# Altium integrated library TI_Logic_Little_Logic.IntLib: 1164 symbols (part 24 of 35)
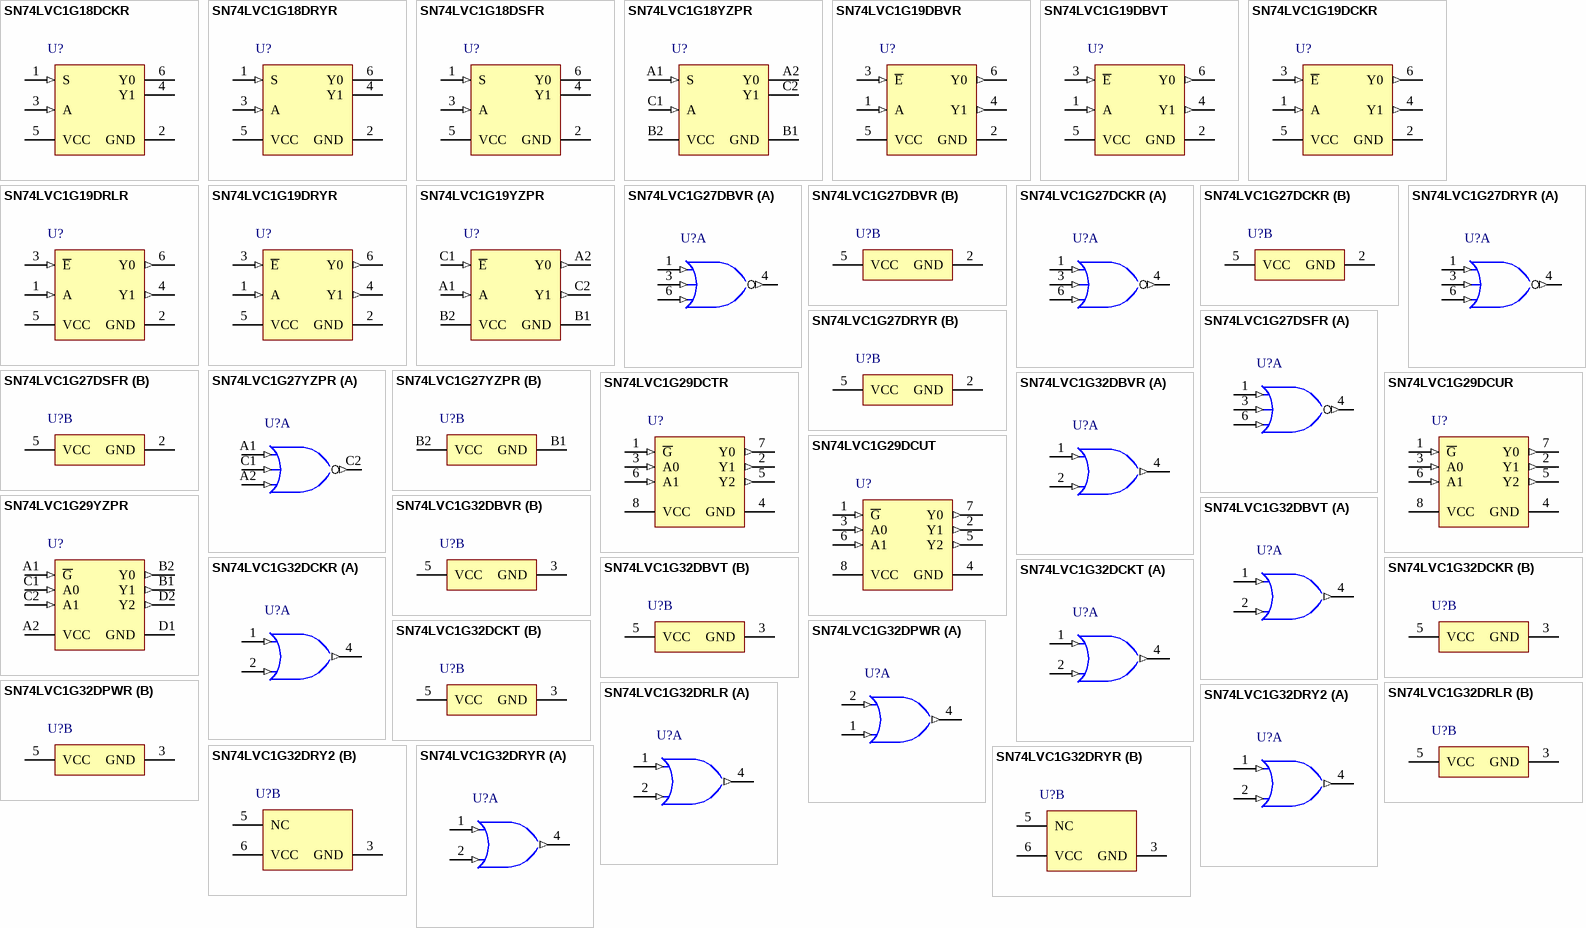
[diagram p83: symbols SN74LVC1G18DCKR to SN74LVC1G32DRYR]

## SN74LVC1G32DCKR
designator U?
Single 2-Input Positive-OR Gate, DCK0005A, LARGE T&R; Generic Part Number: SN74LVC1G32; Manufacturer: Texas Instruments; PartNumber: SN74LVC1G32DCKR; VCC(Min)(V): 1.65; VCC(Max)(V): 5.5; Output Type: CMOS; ICC @ Nom Voltage(Max)(mA): 0.01; Input Type: CMOS/TTL; Bits(#): 1; F @ Nom Voltage(Max)(Mhz): 150; Rating: Catalog; Technology Family: LVC; Voltage(Nom)(V): 1.8,2.5,3.3,5; Schmitt Trigger: No; Output Drive (IOL/IOH)(Max)(mA): 32/-32; tpd @ Nom Voltage(Max)(ns): 7.2,4.4,3.6,3.4; Logic: True; Sub-Family: OR Gate; DatasheetVersion: SCES219U; PackageReference: DCK0005A; Supplier 1: Mouser; Supplier Part Number 1: 595-SN74LVC1G32DCKR; Supplier 2: Digi-Key; Supplier Part Number 2: 296-9848-2-ND; Supplier 3: Digi-Key; Supplier Part Number 3: 296-9848-1-ND; Supplier 4: Digi-Key; Supplier Part Number 4: 296-9848-6-ND; Operating Temperature Range(C): -40 to 125,-40 to 85; 3-State Output: No; ComponentLink1Description: Manufacturer URL; ComponentLink1URL: http://www.ti.com/; ComponentLink2Description: Datasheet; ComponentLink2URL: http://www.ti.com/lit/ds/symlink/sn74lvc1g32.pdf
footprint DCK0005A_N (SOT23, 5-Leads, Body 2.15x1.4mm, Pitch 0.65mm, IPC Medium Density)
footprint DCK0005A_M (SOT23, 5-Leads, Body 2.15x1.4mm, Pitch 0.65mm, IPC Low Density)
footprint DCK0005A_L (SOT23, 5-Leads, Body 2.15x1.4mm, Pitch 0.65mm, IPC High Density)
part A pins: 1 A (in) "Input A", 2 B (in) "Input B", 4 Y (out) "Output Y"
part B pins: 3 GND (power) "Ground Pin", 5 VCC (power) "Power Pin"

## SN74LVC1G32DCKT
designator U?
Single 2-Input Positive-OR Gate, DCK0005A, SMALL T&R; Generic Part Number: SN74LVC1G32; Manufacturer: Texas Instruments; PartNumber: SN74LVC1G32DCKT; VCC(Min)(V): 1.65; VCC(Max)(V): 5.5; Output Type: CMOS; ICC @ Nom Voltage(Max)(mA): 0.01; Input Type: CMOS/TTL; Bits(#): 1; F @ Nom Voltage(Max)(Mhz): 150; Rating: Catalog; Technology Family: LVC; Voltage(Nom)(V): 1.8,2.5,3.3,5; Schmitt Trigger: No; Output Drive (IOL/IOH)(Max)(mA): 32/-32; tpd @ Nom Voltage(Max)(ns): 7.2,4.4,3.6,3.4; Logic: True; Sub-Family: OR Gate; DatasheetVersion: SCES219U; PackageReference: DCK0005A; Supplier 1: Mouser; Supplier Part Number 1: 595-SN74LVC1G32DCKT; Supplier 2: Digi-Key; Supplier Part Number 2: 296-26602-2-ND; Supplier 3: Digi-Key; Supplier Part Number 3: 296-26602-1-ND; Supplier 4: Digi-Key; Supplier Part Number 4: 296-26602-6-ND; Operating Temperature Range(C): -40 to 125,-40 to 85; 3-State Output: No; ComponentLink1Description: Manufacturer URL; ComponentLink1URL: http://www.ti.com/; ComponentLink2Description: Datasheet; ComponentLink2URL: http://www.ti.com/lit/ds/symlink/sn74lvc1g32.pdf
footprint DCK0005A_N (SOT23, 5-Leads, Body 2.15x1.4mm, Pitch 0.65mm, IPC Medium Density)
footprint DCK0005A_M (SOT23, 5-Leads, Body 2.15x1.4mm, Pitch 0.65mm, IPC Low Density)
footprint DCK0005A_L (SOT23, 5-Leads, Body 2.15x1.4mm, Pitch 0.65mm, IPC High Density)
part A pins: 1 A (in) "Input A", 2 B (in) "Input B", 4 Y (out) "Output Y"
part B pins: 3 GND (power) "Ground Pin", 5 VCC (power) "Power Pin"

## SN74LVC1G32DPWR
designator U?
Single 2-Input Positive-OR Gate, DPW0004A, LARGE T&R; Generic Part Number: SN74LVC1G32; Manufacturer: Texas Instruments; PartNumber: SN74LVC1G32DPWR; VCC(Min)(V): 1.65; VCC(Max)(V): 5.5; Output Type: CMOS; ICC @ Nom Voltage(Max)(mA): 0.01; Input Type: CMOS/TTL; Bits(#): 1; F @ Nom Voltage(Max)(Mhz): 150; Rating: Catalog; Technology Family: LVC; Voltage(Nom)(V): 1.8,2.5,3.3,5; Schmitt Trigger: No; Output Drive (IOL/IOH)(Max)(mA): 32/-32; tpd @ Nom Voltage(Max)(ns): 7.2,4.4,3.6,3.4; Logic: True; Sub-Family: OR Gate; DatasheetVersion: SCES219U; PackageReference: DPW0004A; Supplier 1: Mouser; Supplier Part Number 1: 595-SN74LVC1G32DPWR; Supplier 2: Digi-Key; Supplier Part Number 2: 296-40552-2-ND; Supplier 3: Digi-Key; Supplier Part Number 3: 296-40552-1-ND; Supplier 4: Digi-Key; Supplier Part Number 4: 296-40552-6-ND; Operating Temperature Range(C): -40 to 125,-40 to 85; 3-State Output: No; ComponentLink1Description: Manufacturer URL; ComponentLink1URL: http://www.ti.com/; ComponentLink2Description: Datasheet; ComponentLink2URL: http://www.ti.com/lit/ds/symlink/sn74lvc1g32.pdf
footprint DPW0004A_V (SON, 5-Leads, Body 0.8x0.8mm, TI Recommend)
part A pins: 1 B (in) "Input B", 2 A (in) "Input A", 4 Y (out) "Output Y"
part B pins: 3 GND (power) "Ground", 5 VCC (power) "Power Pin"

## SN74LVC1G32DRLR
designator U?
Single 2-Input Positive-OR Gate, DRL0005A, LARGE T&R; Generic Part Number: SN74LVC1G32; Manufacturer: Texas Instruments; PartNumber: SN74LVC1G32DRLR; VCC(Min)(V): 1.65; VCC(Max)(V): 5.5; Output Type: CMOS; ICC @ Nom Voltage(Max)(mA): 0.01; Input Type: CMOS/TTL; Bits(#): 1; F @ Nom Voltage(Max)(Mhz): 150; Rating: Catalog; Technology Family: LVC; Voltage(Nom)(V): 1.8,2.5,3.3,5; Schmitt Trigger: No; Output Drive (IOL/IOH)(Max)(mA): 32/-32; tpd @ Nom Voltage(Max)(ns): 7.2,4.4,3.6,3.4; Logic: True; Sub-Family: OR Gate; DatasheetVersion: SCES219U; PackageReference: DRL0005A; Supplier 1: Mouser; Supplier Part Number 1: 595-SN74LVC1G32DRLR; Supplier 2: Digi-Key; Supplier Part Number 2: 296-18016-2-ND; Supplier 3: Digi-Key; Supplier Part Number 3: 296-18016-1-ND; Supplier 4: Digi-Key; Supplier Part Number 4: 296-18016-6-ND; Operating Temperature Range(C): -40 to 125,-40 to 85; 3-State Output: No; ComponentLink1Description: Manufacturer URL; ComponentLink1URL: http://www.ti.com/; ComponentLink2Description: Datasheet; ComponentLink2URL: http://www.ti.com/lit/ds/symlink/sn74lvc1g32.pdf
footprint DRL0005A_N (SOT23, 5-Leads, Body 1.7x1.3mm, Pitch 0.5mm, IPC Medium Density)
footprint DRL0005A_M (SOT23, 5-Leads, Body 1.7x1.3mm, Pitch 0.5mm, IPC Low Density)
footprint DRL0005A_L (SOT23, 5-Leads, Body 1.7x1.3mm, Pitch 0.5mm, IPC High Density)
part A pins: 1 A (in) "Input A", 2 B (in) "Input B", 4 Y (out) "Output Y"
part B pins: 3 GND (power) "Ground Pin", 5 VCC (power) "Power Pin"

## SN74LVC1G32DRY2
designator U?
Single 2-Input Positive-OR Gate, DRY0006A, LARGE T&R; Generic Part Number: SN74LVC1G32; Manufacturer: Texas Instruments; PartNumber: SN74LVC1G32DRY2; VCC(Min)(V): 1.65; VCC(Max)(V): 5.5; Output Type: CMOS; ICC @ Nom Voltage(Max)(mA): 0.01; Input Type: CMOS/TTL; Bits(#): 1; F @ Nom Voltage(Max)(Mhz): 150; Rating: Catalog; Technology Family: LVC; Voltage(Nom)(V): 1.8,2.5,3.3,5; Schmitt Trigger: No; Output Drive (IOL/IOH)(Max)(mA): 32/-32; tpd @ Nom Voltage(Max)(ns): 7.2,4.4,3.6,3.4; Logic: True; Sub-Family: OR Gate; DatasheetVersion: SCES219U; PackageReference: DRY0006A; Supplier 1: Mouser; Supplier Part Number 1: 595-SN74LVC1G32DRY2; Supplier 2: Digi-Key; Supplier Part Number 2: 296-36412-2-ND; Supplier 3: Digi-Key; Supplier Part Number 3: 296-36412-1-ND; Supplier 4: Digi-Key; Supplier Part Number 4: 296-36412-6-ND; Operating Temperature Range(C): -40 to 125,-40 to 85; 3-State Output: No; ComponentLink1Description: Manufacturer URL; ComponentLink1URL: http://www.ti.com/; ComponentLink2Description: Datasheet; ComponentLink2URL: http://www.ti.com/lit/ds/symlink/sn74lvc1g32.pdf
footprint DRY0006A_V (SON, 6-Leads, Body 1.45x1mm, Pitch 0.5mm)
part A pins: 1 A (in) "Input", 2 B (in) "Input", 4 Y (out) "Output"
part B pins: 3 GND (power) "Ground", 5 NC "Not connected", 6 VCC (power) "Power pin"

## SN74LVC1G32DRYR
designator U?
Single 2-Input Positive-OR Gate, DRY0006A, LARGE T&R; Generic Part Number: SN74LVC1G32; Manufacturer: Texas Instruments; PartNumber: SN74LVC1G32DRYR; VCC(Min)(V): 1.65; VCC(Max)(V): 5.5; Output Type: CMOS; ICC @ Nom Voltage(Max)(mA): 0.01; Input Type: CMOS/TTL; Bits(#): 1; F @ Nom Voltage(Max)(Mhz): 150; Rating: Catalog; Technology Family: LVC; Voltage(Nom)(V): 1.8,2.5,3.3,5; Schmitt Trigger: No; Output Drive (IOL/IOH)(Max)(mA): 32/-32; tpd @ Nom Voltage(Max)(ns): 7.2,4.4,3.6,3.4; Logic: True; Sub-Family: OR Gate; DatasheetVersion: SCES219U; PackageReference: DRY0006A; Supplier 1: Mouser; Supplier Part Number 1: 595-SN74LVC1G32DRYR; Supplier 2: Digi-Key; Supplier Part Number 2: 296-21549-2-ND; Supplier 3: Digi-Key; Supplier Part Number 3: 296-21549-1-ND; Supplier 4: Digi-Key; Supplier Part Number 4: 296-21549-6-ND; Operating Temperature Range(C): -40 to 125,-40 to 85; 3-State Output: No; ComponentLink1Description: Manufacturer URL; ComponentLink1URL: http://www.ti.com/; ComponentLink2Description: Datasheet; ComponentLink2URL: http://www.ti.com/lit/ds/symlink/sn74lvc1g32.pdf
footprint DRY0006A_V (SON, 6-Leads, Body 1.45x1mm, Pitch 0.5mm)
part A pins: 1 A (in) "Input", 2 B (in) "Input", 4 Y (out) "Output"
part B pins: 3 GND (power) "Ground", 5 NC "Not connected", 6 VCC (power) "Power pin"

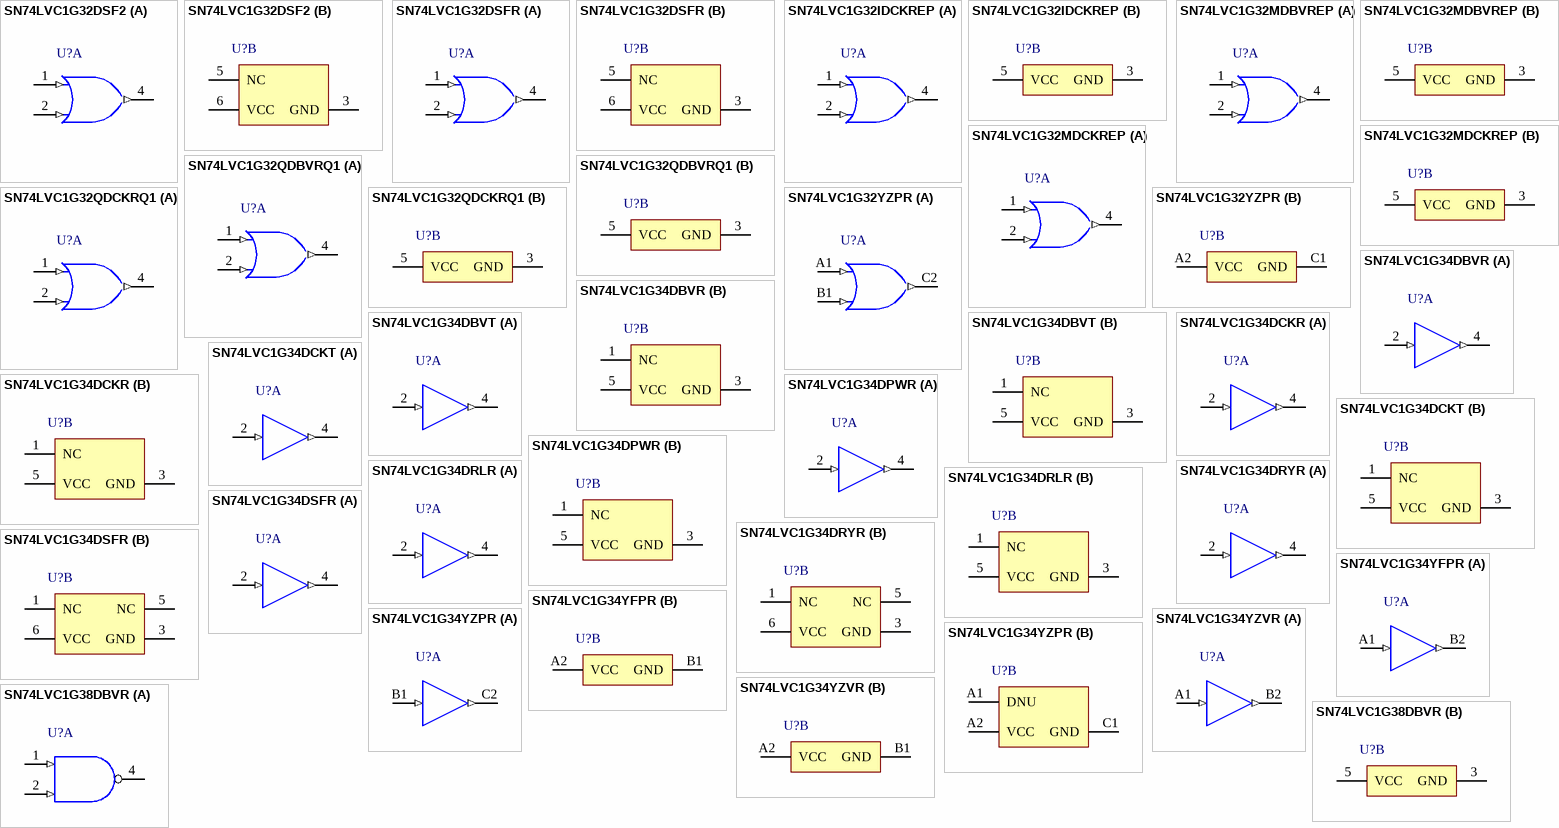
[diagram p40: symbols SN74LVC1G32DSF2 to SN74LVC1G38DBVR]

## SN74LVC1G32DSF2
designator U?
Single 2-Input Positive-OR Gate, DSF0006A, LARGE T&R; Generic Part Number: SN74LVC1G32; Manufacturer: Texas Instruments; PartNumber: SN74LVC1G32DSF2; VCC(Min)(V): 1.65; VCC(Max)(V): 5.5; Output Type: CMOS; ICC @ Nom Voltage(Max)(mA): 0.01; Input Type: CMOS/TTL; Bits(#): 1; F @ Nom Voltage(Max)(Mhz): 150; Rating: Catalog; Technology Family: LVC; Voltage(Nom)(V): 1.8,2.5,3.3,5; Schmitt Trigger: No; Output Drive (IOL/IOH)(Max)(mA): 32/-32; tpd @ Nom Voltage(Max)(ns): 7.2,4.4,3.6,3.4; Logic: True; Sub-Family: OR Gate; DatasheetVersion: SCES219U; PackageReference: DSF0006A; Supplier 1: Mouser; Supplier Part Number 1: 595-SN74LVC1G32DSF2; Supplier 2: Digi-Key; Supplier Part Number 2: 296-30438-2-ND; Supplier 3: Digi-Key; Supplier Part Number 3: 296-30438-1-ND; Supplier 4: Digi-Key; Supplier Part Number 4: 296-30438-6-ND; Operating Temperature Range(C): -40 to 125,-40 to 85; 3-State Output: No; ComponentLink1Description: Manufacturer URL; ComponentLink1URL: http://www.ti.com/; ComponentLink2Description: Datasheet; ComponentLink2URL: http://www.ti.com/lit/ds/symlink/sn74lvc1g32.pdf
footprint DSF0006A_V (SON, 6-Leads, Body 1x1mm, Pitch 0.35mm, TI Recommend)
part A pins: 1 A (in) "Input", 2 B (in) "Input", 4 Y (out) "Output"
part B pins: 3 GND (power) "Ground", 5 NC "Not connected", 6 VCC (power) "Power pin"

## SN74LVC1G32DSFR
designator U?
Single 2-Input Positive-OR Gate, DSF0006A, LARGE T&R; Generic Part Number: SN74LVC1G32; Manufacturer: Texas Instruments; PartNumber: SN74LVC1G32DSFR; VCC(Min)(V): 1.65; VCC(Max)(V): 5.5; Output Type: CMOS; ICC @ Nom Voltage(Max)(mA): 0.01; Input Type: CMOS/TTL; Bits(#): 1; F @ Nom Voltage(Max)(Mhz): 150; Rating: Catalog; Technology Family: LVC; Voltage(Nom)(V): 1.8,2.5,3.3,5; Schmitt Trigger: No; Output Drive (IOL/IOH)(Max)(mA): 32/-32; tpd @ Nom Voltage(Max)(ns): 7.2,4.4,3.6,3.4; Logic: True; Sub-Family: OR Gate; DatasheetVersion: SCES219U; PackageReference: DSF0006A; Supplier 1: Mouser; Supplier Part Number 1: 595-SN74LVC1G32DSFR; Supplier 2: Digi-Key; Supplier Part Number 2: 296-28376-2-ND; Supplier 3: Digi-Key; Supplier Part Number 3: 296-28376-1-ND; Supplier 4: Digi-Key; Supplier Part Number 4: 296-28376-6-ND; Operating Temperature Range(C): -40 to 125,-40 to 85; 3-State Output: No; ComponentLink1Description: Manufacturer URL; ComponentLink1URL: http://www.ti.com/; ComponentLink2Description: Datasheet; ComponentLink2URL: http://www.ti.com/lit/ds/symlink/sn74lvc1g32.pdf
footprint DSF0006A_V (SON, 6-Leads, Body 1x1mm, Pitch 0.35mm, TI Recommend)
part A pins: 1 A (in) "Input", 2 B (in) "Input", 4 Y (out) "Output"
part B pins: 3 GND (power) "Ground", 5 NC "Not connected", 6 VCC (power) "Power pin"

## SN74LVC1G32IDCKREP
designator U?
Enhanced Product Single 2-Input Positive-Or Gate, DCK0005A, LARGE T&R; Generic Part Number: SN74LVC1G32-EP; Manufacturer: Texas Instruments; PartNumber: SN74LVC1G32IDCKREP; VCC(Min)(V): 1.65; VCC(Max)(V): 5.5; Output Type: CMOS; ICC @ Nom Voltage(Max)(mA): 0.01; Input Type: CMOS/TTL; Bits(#): 1; F @ Nom Voltage(Max)(Mhz): 150; Rating: HiRel Enhanced Product; Technology Family: LVC; Voltage(Nom)(V): 1.8,2.5,3.3,5; Schmitt Trigger: No; Output Drive (IOL/IOH)(Max)(mA): 32/-32; tpd @ Nom Voltage(Max)(ns): 8,6.5,5.7,4.5; Logic: True; Sub-Family: OR Gate; DatasheetVersion: SCES458D; PackageReference: DCK0005A; Supplier 1: Mouser; Supplier Part Number 1: 595-SN74LVC32IDCKREP; Supplier 2: Digi-Key; Supplier Part Number 2: 296-22348-2-ND; Supplier 3: Digi-Key; Supplier Part Number 3: 296-22348-1-ND; Supplier 4: Digi-Key; Supplier Part Number 4: 296-22348-6-ND; Operating Temperature Range(C): -40 to 85,-55 to 125; 3-State Output: No; ComponentLink1Description: Manufacturer URL; ComponentLink1URL: http://www.ti.com/; ComponentLink2Description: Datasheet; ComponentLink2URL: http://www.ti.com/lit/ds/symlink/sn74lvc1g32-ep.pdf
footprint DCK0005A_N (SOT23, 5-Leads, Body 2.15x1.4mm, Pitch 0.65mm, IPC Medium Density)
footprint DCK0005A_M (SOT23, 5-Leads, Body 2.15x1.4mm, Pitch 0.65mm, IPC Low Density)
footprint DCK0005A_L (SOT23, 5-Leads, Body 2.15x1.4mm, Pitch 0.65mm, IPC High Density)
part A pins: 1 A (in) "Input A", 2 B (in) "Input B", 4 Y (out) "Output Y"
part B pins: 3 GND (power) "Ground Pin", 5 VCC (power) "Power Pin"

## SN74LVC1G32MDBVREP
designator U?
Enhanced Product Single 2-Input Positive-Or Gate, DBV0005A, LARGE T&R; Generic Part Number: SN74LVC1G32-EP; Manufacturer: Texas Instruments; PartNumber: SN74LVC1G32MDBVREP; VCC(Min)(V): 1.65; VCC(Max)(V): 5.5; Output Type: CMOS; ICC @ Nom Voltage(Max)(mA): 0.01; Input Type: CMOS/TTL; Bits(#): 1; F @ Nom Voltage(Max)(Mhz): 150; Rating: HiRel Enhanced Product; Technology Family: LVC; Voltage(Nom)(V): 1.8,2.5,3.3,5; Schmitt Trigger: No; Output Drive (IOL/IOH)(Max)(mA): 32/-32; tpd @ Nom Voltage(Max)(ns): 8,6.5,5.7,4.5; Logic: True; Sub-Family: OR Gate; DatasheetVersion: SCES458D; PackageReference: DBV0005A; Supplier 1: Mouser; Supplier Part Number 1: 595-SN74LVC32MDBVREP; Supplier 2: Digi-Key; Supplier Part Number 2: 296-22349-2-ND; Supplier 3: Digi-Key; Supplier Part Number 3: 296-22349-1-ND; Supplier 4: Digi-Key; Supplier Part Number 4: 296-22349-6-ND; Operating Temperature Range(C): -40 to 85,-55 to 125; 3-State Output: No; ComponentLink1Description: Manufacturer URL; ComponentLink1URL: http://www.ti.com/; ComponentLink2Description: Datasheet; ComponentLink2URL: http://www.ti.com/lit/ds/symlink/sn74lvc1g32-ep.pdf
footprint DBV0005A_N (SOT23, 5-Leads, Body 3.05x1.75mm, Pitch 0.95mm, IPC Medium Density)
footprint DBV0005A_M (SOT23, 5-Leads, Body 3.05x1.75mm, Pitch 0.95mm, IPC Low Density)
footprint DBV0005A_L (SOT23, 5-Leads, Body 3.05x1.75mm, Pitch 0.95mm, IPC High Density)
part A pins: 1 A (in) "Input A", 2 B (in) "Input B", 4 Y (out) "Output Y"
part B pins: 3 GND (power) "Ground Pin", 5 VCC (power) "Power Pin"

## SN74LVC1G32MDCKREP
designator U?
Enhanced Product Single 2-Input Positive-Or Gate, DCK0005A, LARGE T&R; Generic Part Number: SN74LVC1G32-EP; Manufacturer: Texas Instruments; PartNumber: SN74LVC1G32MDCKREP; VCC(Min)(V): 1.65; VCC(Max)(V): 5.5; Output Type: CMOS; ICC @ Nom Voltage(Max)(mA): 0.01; Input Type: CMOS/TTL; Bits(#): 1; F @ Nom Voltage(Max)(Mhz): 150; Rating: HiRel Enhanced Product; Technology Family: LVC; Voltage(Nom)(V): 1.8,2.5,3.3,5; Schmitt Trigger: No; Output Drive (IOL/IOH)(Max)(mA): 32/-32; tpd @ Nom Voltage(Max)(ns): 8,6.5,5.7,4.5; Logic: True; Sub-Family: OR Gate; DatasheetVersion: SCES458D; PackageReference: DCK0005A; Supplier 1: Mouser; Supplier Part Number 1: 595-SN74LVC32MDCKREP; Supplier 2: Digi-Key; Supplier Part Number 2: 296-22350-2-ND; Supplier 3: Digi-Key; Supplier Part Number 3: 296-22350-1-ND; Supplier 4: Digi-Key; Supplier Part Number 4: 296-22350-6-ND; Operating Temperature Range(C): -40 to 85,-55 to 125; 3-State Output: No; ComponentLink1Description: Manufacturer URL; ComponentLink1URL: http://www.ti.com/; ComponentLink2Description: Datasheet; ComponentLink2URL: http://www.ti.com/lit/ds/symlink/sn74lvc1g32-ep.pdf
footprint DCK0005A_N (SOT23, 5-Leads, Body 2.15x1.4mm, Pitch 0.65mm, IPC Medium Density)
footprint DCK0005A_M (SOT23, 5-Leads, Body 2.15x1.4mm, Pitch 0.65mm, IPC Low Density)
footprint DCK0005A_L (SOT23, 5-Leads, Body 2.15x1.4mm, Pitch 0.65mm, IPC High Density)
part A pins: 1 A (in) "Input A", 2 B (in) "Input B", 4 Y (out) "Output Y"
part B pins: 3 GND (power) "Ground Pin", 5 VCC (power) "Power Pin"

## SN74LVC1G32QDBVRQ1
designator U?
Automotive Catalog Single 2-Input Positive-OR Gate, DBV0005A, LARGE T&R; Generic Part Number: SN74LVC1G32-Q1; Manufacturer: Texas Instruments; PartNumber: SN74LVC1G32QDBVRQ1; VCC(Min)(V): 1.65; VCC(Max)(V): 5.5; Output Type: CMOS; ICC @ Nom Voltage(Max)(mA): 0.025; Input Type: CMOS/TTL; Bits(#): 1; F @ Nom Voltage(Max)(Mhz): 150; Technology Family: LVC; Voltage(Nom)(V): 1.8,2.5,3.3,5; Schmitt Trigger: No; Output Drive (IOL/IOH)(Max)(mA): 32/-32; tpd @ Nom Voltage(Max)(ns): 11,7.5,6.5,6; Logic: True; Sub-Family: OR Gate; DatasheetVersion: SCES648; PackageReference: DBV0005A; Supplier 1: Mouser; Supplier Part Number 1: 595-LVC1G32QDBVRQ1; Supplier 2: Digi-Key; Supplier Part Number 2: 296-24202-2-ND; Supplier 3: Digi-Key; Supplier Part Number 3: 296-24202-1-ND; Supplier 4: Digi-Key; Supplier Part Number 4: 296-24202-6-ND; Operating Temperature Range(C): -40 to 125; Rating: Automotive; 3-State Output: No; ComponentLink1Description: Manufacturer URL; ComponentLink1URL: http://www.ti.com/; ComponentLink2Description: Datasheet; ComponentLink2URL: http://www.ti.com/lit/ds/symlink/sn74lvc1g32-q1.pdf
footprint DBV0005A_N (SOT23, 5-Leads, Body 3.05x1.75mm, Pitch 0.95mm, IPC Medium Density)
footprint DBV0005A_M (SOT23, 5-Leads, Body 3.05x1.75mm, Pitch 0.95mm, IPC Low Density)
footprint DBV0005A_L (SOT23, 5-Leads, Body 3.05x1.75mm, Pitch 0.95mm, IPC High Density)
part A pins: 1 A (in) "Input A", 2 B (in) "Input B", 4 Y (out) "Output Y"
part B pins: 3 GND (power) "Ground Pin", 5 VCC (power) "Power Pin"

## SN74LVC1G32QDCKRQ1
designator U?
Automotive Catalog Single 2-Input Positive-OR Gate, DCK0005A, LARGE T&R; Generic Part Number: SN74LVC1G32-Q1; Manufacturer: Texas Instruments; PartNumber: SN74LVC1G32QDCKRQ1; VCC(Min)(V): 1.65; VCC(Max)(V): 5.5; Output Type: CMOS; ICC @ Nom Voltage(Max)(mA): 0.025; Input Type: CMOS/TTL; Bits(#): 1; F @ Nom Voltage(Max)(Mhz): 150; Technology Family: LVC; Voltage(Nom)(V): 1.8,2.5,3.3,5; Schmitt Trigger: No; Output Drive (IOL/IOH)(Max)(mA): 32/-32; tpd @ Nom Voltage(Max)(ns): 11,7.5,6.5,6; Logic: True; Sub-Family: OR Gate; DatasheetVersion: SCES648; PackageReference: DCK0005A; Supplier 1: Mouser; Supplier Part Number 1: 595-LVC1G32QDCKRQ1; Supplier 2: Digi-Key; Supplier Part Number 2: 296-24203-2-ND; Supplier 3: Digi-Key; Supplier Part Number 3: 296-24203-1-ND; Supplier 4: Digi-Key; Supplier Part Number 4: 296-24203-6-ND; Operating Temperature Range(C): -40 to 125; Rating: Automotive; 3-State Output: No; ComponentLink1Description: Manufacturer URL; ComponentLink1URL: http://www.ti.com/; ComponentLink2Description: Datasheet; ComponentLink2URL: http://www.ti.com/lit/ds/symlink/sn74lvc1g32-q1.pdf
footprint DCK0005A_N (SOT23, 5-Leads, Body 2.15x1.4mm, Pitch 0.65mm, IPC Medium Density)
footprint DCK0005A_M (SOT23, 5-Leads, Body 2.15x1.4mm, Pitch 0.65mm, IPC Low Density)
footprint DCK0005A_L (SOT23, 5-Leads, Body 2.15x1.4mm, Pitch 0.65mm, IPC High Density)
part A pins: 1 A (in) "Input A", 2 B (in) "Input B", 4 Y (out) "Output Y"
part B pins: 3 GND (power) "Ground Pin", 5 VCC (power) "Power Pin"

## SN74LVC1G32YZPR
designator U?
Single 2-Input Positive-OR Gate, YZP0005ADAD, LARGE T&R; Generic Part Number: SN74LVC1G32; Manufacturer: Texas Instruments; PartNumber: SN74LVC1G32YZPR; VCC(Min)(V): 1.65; VCC(Max)(V): 5.5; Output Type: CMOS; ICC @ Nom Voltage(Max)(mA): 0.01; Input Type: CMOS/TTL; Bits(#): 1; F @ Nom Voltage(Max)(Mhz): 150; Rating: Catalog; Technology Family: LVC; Voltage(Nom)(V): 1.8,2.5,3.3,5; Schmitt Trigger: No; Output Drive (IOL/IOH)(Max)(mA): 32/-32; tpd @ Nom Voltage(Max)(ns): 7.2,4.4,3.6,3.4; Logic: True; Sub-Family: OR Gate; DatasheetVersion: SCES219U; PackageReference: YZP0005ADAD; Supplier 1: Mouser; Supplier Part Number 1: 595-SN74LVC1G32YZPR; Supplier 2: Digi-Key; Supplier Part Number 2: 296-14365-2-ND; Supplier 3: Digi-Key; Supplier Part Number 3: 296-14365-1-ND; Supplier 4: Digi-Key; Supplier Part Number 4: 296-14365-6-ND; Operating Temperature Range(C): -40 to 125,-40 to 85; 3-State Output: No; ComponentLink1Description: Manufacturer URL; ComponentLink1URL: http://www.ti.com/; ComponentLink2Description: Datasheet; ComponentLink2URL: http://www.ti.com/lit/ds/symlink/sn74lvc1g32.pdf
footprint YZP0005ADAD (BGA, 5-Balls, Body 1.39x0.89mm, Pitch 0.5mm)
part A pins: A1 A (in), B1 B (in), C2 Y (out)
part B pins: A2 VCC (power), C1 GND (power)

## SN74LVC1G34DBVR
designator U?
Single Buffer Gate, DBV0005A, LARGE T&R; Generic Part Number: SN74LVC1G34; Manufacturer: Texas Instruments; PartNumber: SN74LVC1G34DBVR; VCC(Min)(V): 1.65; VCC(Max)(V): 5.5; Output Type: CMOS; ICC @ Nom Voltage(Max)(mA): 0.001; Input Type: CMOS/TTL; Bits(#): 1; F @ Nom Voltage(Max)(Mhz): 150; Rating: Catalog; Technology Family: LVC; Voltage(Nom)(V): 1.8,2.5,3.3,5; Schmitt Trigger: No; Output Drive (IOL/IOH)(Max)(mA): 32/-32; tpd @ Nom Voltage(Max)(ns): 8.6,4.4,4.1,3.2; Logic: True; Sub-Family: Non-Inverting Buffer/Driver; DatasheetVersion: SCES519L; PackageReference: DBV0005A; Supplier 1: Mouser; Supplier Part Number 1: 595-SN74LVC1G34DBVR; Supplier 2: Digi-Key; Supplier Part Number 2: 296-17893-2-ND; Supplier 3: Digi-Key; Supplier Part Number 3: 296-17893-1-ND; Supplier 4: Digi-Key; Supplier Part Number 4: 296-17893-6-ND; Operating Temperature Range(C): -40 to 125,-40 to 85; 3-State Output: No; ComponentLink1Description: Manufacturer URL; ComponentLink1URL: http://www.ti.com/; ComponentLink2Description: Datasheet; ComponentLink2URL: http://www.ti.com/lit/ds/symlink/sn74lvc1g34.pdf
footprint DBV0005A_N (SOT23, 5-Leads, Body 3.05x1.75mm, Pitch 0.95mm, IPC Medium Density)
footprint DBV0005A_M (SOT23, 5-Leads, Body 3.05x1.75mm, Pitch 0.95mm, IPC Low Density)
footprint DBV0005A_L (SOT23, 5-Leads, Body 3.05x1.75mm, Pitch 0.95mm, IPC High Density)
part A pins: 2 A (in) "Input", 4 Y (out) "Output"
part B pins: 1 NC "Ground", 3 GND (power) "Ground Pin", 5 VCC (power) "Power Pin"

## SN74LVC1G34DBVT
designator U?
Single Buffer Gate, DBV0005A, SMALL T&R; Generic Part Number: SN74LVC1G34; Manufacturer: Texas Instruments; PartNumber: SN74LVC1G34DBVT; VCC(Min)(V): 1.65; VCC(Max)(V): 5.5; Output Type: CMOS; ICC @ Nom Voltage(Max)(mA): 0.001; Input Type: CMOS/TTL; Bits(#): 1; F @ Nom Voltage(Max)(Mhz): 150; Rating: Catalog; Technology Family: LVC; Voltage(Nom)(V): 1.8,2.5,3.3,5; Schmitt Trigger: No; Output Drive (IOL/IOH)(Max)(mA): 32/-32; tpd @ Nom Voltage(Max)(ns): 8.6,4.4,4.1,3.2; Logic: True; Sub-Family: Non-Inverting Buffer/Driver; DatasheetVersion: SCES519L; PackageReference: DBV0005A; Supplier 1: Mouser; Supplier Part Number 1: 595-SN74LVC1G34DBVT; Supplier 2: Digi-Key; Supplier Part Number 2: 296-26603-2-ND; Supplier 3: Digi-Key; Supplier Part Number 3: 296-26603-1-ND; Supplier 4: Digi-Key; Supplier Part Number 4: 296-26603-6-ND; Operating Temperature Range(C): -40 to 125,-40 to 85; 3-State Output: No; ComponentLink1Description: Manufacturer URL; ComponentLink1URL: http://www.ti.com/; ComponentLink2Description: Datasheet; ComponentLink2URL: http://www.ti.com/lit/ds/symlink/sn74lvc1g34.pdf
footprint DBV0005A_N (SOT23, 5-Leads, Body 3.05x1.75mm, Pitch 0.95mm, IPC Medium Density)
footprint DBV0005A_M (SOT23, 5-Leads, Body 3.05x1.75mm, Pitch 0.95mm, IPC Low Density)
footprint DBV0005A_L (SOT23, 5-Leads, Body 3.05x1.75mm, Pitch 0.95mm, IPC High Density)
part A pins: 2 A (in) "Input", 4 Y (out) "Output"
part B pins: 1 NC "Ground", 3 GND (power) "Ground Pin", 5 VCC (power) "Power Pin"

## SN74LVC1G34DCKR
designator U?
Single Buffer Gate, DCK0005A, LARGE T&R; Generic Part Number: SN74LVC1G34; Manufacturer: Texas Instruments; PartNumber: SN74LVC1G34DCKR; VCC(Min)(V): 1.65; VCC(Max)(V): 5.5; Output Type: CMOS; ICC @ Nom Voltage(Max)(mA): 0.001; Input Type: CMOS/TTL; Bits(#): 1; F @ Nom Voltage(Max)(Mhz): 150; Rating: Catalog; Technology Family: LVC; Voltage(Nom)(V): 1.8,2.5,3.3,5; Schmitt Trigger: No; Output Drive (IOL/IOH)(Max)(mA): 32/-32; tpd @ Nom Voltage(Max)(ns): 8.6,4.4,4.1,3.2; Logic: True; Sub-Family: Non-Inverting Buffer/Driver; DatasheetVersion: SCES519L; PackageReference: DCK0005A; Supplier 1: Mouser; Supplier Part Number 1: 595-SN74LVC1G34DCKR; Supplier 2: Digi-Key; Supplier Part Number 2: 296-17230-2-ND; Supplier 3: Digi-Key; Supplier Part Number 3: 296-17230-1-ND; Supplier 4: Digi-Key; Supplier Part Number 4: 296-17230-6-ND; Operating Temperature Range(C): -40 to 125,-40 to 85; 3-State Output: No; ComponentLink1Description: Manufacturer URL; ComponentLink1URL: http://www.ti.com/; ComponentLink2Description: Datasheet; ComponentLink2URL: http://www.ti.com/lit/ds/symlink/sn74lvc1g34.pdf
footprint DCK0005A_N (SOT23, 5-Leads, Body 2.15x1.4mm, Pitch 0.65mm, IPC Medium Density)
footprint DCK0005A_M (SOT23, 5-Leads, Body 2.15x1.4mm, Pitch 0.65mm, IPC Low Density)
footprint DCK0005A_L (SOT23, 5-Leads, Body 2.15x1.4mm, Pitch 0.65mm, IPC High Density)
part A pins: 2 A (in) "Input", 4 Y (out) "Output"
part B pins: 1 NC "Ground", 3 GND (power) "Ground Pin", 5 VCC (power) "Power Pin"

## SN74LVC1G34DCKT
designator U?
Single Buffer Gate, DCK0005A, SMALL T&R; Generic Part Number: SN74LVC1G34; Manufacturer: Texas Instruments; PartNumber: SN74LVC1G34DCKT; VCC(Min)(V): 1.65; VCC(Max)(V): 5.5; Output Type: CMOS; ICC @ Nom Voltage(Max)(mA): 0.001; Input Type: CMOS/TTL; Bits(#): 1; F @ Nom Voltage(Max)(Mhz): 150; Rating: Catalog; Technology Family: LVC; Voltage(Nom)(V): 1.8,2.5,3.3,5; Schmitt Trigger: No; Output Drive (IOL/IOH)(Max)(mA): 32/-32; tpd @ Nom Voltage(Max)(ns): 8.6,4.4,4.1,3.2; Logic: True; Sub-Family: Non-Inverting Buffer/Driver; DatasheetVersion: SCES519L; PackageReference: DCK0005A; Supplier 1: Mouser; Supplier Part Number 1: 595-SN74LVC1G34DCKT; Supplier 2: Digi-Key; Supplier Part Number 2: 296-26604-2-ND; Supplier 3: Digi-Key; Supplier Part Number 3: 296-26604-1-ND; Supplier 4: Digi-Key; Supplier Part Number 4: 296-26604-6-ND; Operating Temperature Range(C): -40 to 125,-40 to 85; 3-State Output: No; ComponentLink1Description: Manufacturer URL; ComponentLink1URL: http://www.ti.com/; ComponentLink2Description: Datasheet; ComponentLink2URL: http://www.ti.com/lit/ds/symlink/sn74lvc1g34.pdf
footprint DCK0005A_N (SOT23, 5-Leads, Body 2.15x1.4mm, Pitch 0.65mm, IPC Medium Density)
footprint DCK0005A_M (SOT23, 5-Leads, Body 2.15x1.4mm, Pitch 0.65mm, IPC Low Density)
footprint DCK0005A_L (SOT23, 5-Leads, Body 2.15x1.4mm, Pitch 0.65mm, IPC High Density)
part A pins: 2 A (in) "Input", 4 Y (out) "Output"
part B pins: 1 NC "Ground", 3 GND (power) "Ground Pin", 5 VCC (power) "Power Pin"

## SN74LVC1G34DPWR
designator U?
Single Buffer Gate, DPW0004A, LARGE T&R; Generic Part Number: SN74LVC1G34; Manufacturer: Texas Instruments; PartNumber: SN74LVC1G34DPWR; VCC(Min)(V): 1.65; VCC(Max)(V): 5.5; Output Type: CMOS; ICC @ Nom Voltage(Max)(mA): 0.001; Input Type: CMOS/TTL; Bits(#): 1; F @ Nom Voltage(Max)(Mhz): 150; Rating: Catalog; Technology Family: LVC; Voltage(Nom)(V): 1.8,2.5,3.3,5; Schmitt Trigger: No; Output Drive (IOL/IOH)(Max)(mA): 32/-32; tpd @ Nom Voltage(Max)(ns): 8.6,4.4,4.1,3.2; Logic: True; Sub-Family: Non-Inverting Buffer/Driver; DatasheetVersion: SCES519L; PackageReference: DPW0004A; Supplier 1: Mouser; Supplier Part Number 1: 595-SN74LVC1G34DPWR; Supplier 2: Digi-Key; Supplier Part Number 2: 296-40553-2-ND; Supplier 3: Digi-Key; Supplier Part Number 3: 296-40553-1-ND; Supplier 4: Digi-Key; Supplier Part Number 4: 296-40553-6-ND; Operating Temperature Range(C): -40 to 125,-40 to 85; 3-State Output: No; ComponentLink1Description: Manufacturer URL; ComponentLink1URL: http://www.ti.com/; ComponentLink2Description: Datasheet; ComponentLink2URL: http://www.ti.com/lit/ds/symlink/sn74lvc1g34.pdf
footprint DPW0004A_V (SON, 5-Leads, Body 0.8x0.8mm, TI Recommend)
part A pins: 2 A (in) "Input", 4 Y (out) "Output"
part B pins: 1 NC "Ground", 3 GND (power) "Ground Pin", 5 VCC (power) "Power Pin"

## SN74LVC1G34DRLR
designator U?
Single Buffer Gate, DRL0005A, LARGE T&R; Generic Part Number: SN74LVC1G34; Manufacturer: Texas Instruments; PartNumber: SN74LVC1G34DRLR; VCC(Min)(V): 1.65; VCC(Max)(V): 5.5; Output Type: CMOS; ICC @ Nom Voltage(Max)(mA): 0.001; Input Type: CMOS/TTL; Bits(#): 1; F @ Nom Voltage(Max)(Mhz): 150; Rating: Catalog; Technology Family: LVC; Voltage(Nom)(V): 1.8,2.5,3.3,5; Schmitt Trigger: No; Output Drive (IOL/IOH)(Max)(mA): 32/-32; tpd @ Nom Voltage(Max)(ns): 8.6,4.4,4.1,3.2; Logic: True; Sub-Family: Non-Inverting Buffer/Driver; DatasheetVersion: SCES519L; PackageReference: DRL0005A; Supplier 1: Mouser; Supplier Part Number 1: 595-SN74LVC1G34DRLR; Supplier 2: Digi-Key; Supplier Part Number 2: 296-18017-2-ND; Supplier 3: Digi-Key; Supplier Part Number 3: 296-18017-1-ND; Supplier 4: Digi-Key; Supplier Part Number 4: 296-18017-6-ND; Operating Temperature Range(C): -40 to 125,-40 to 85; 3-State Output: No; ComponentLink1Description: Manufacturer URL; ComponentLink1URL: http://www.ti.com/; ComponentLink2Description: Datasheet; ComponentLink2URL: http://www.ti.com/lit/ds/symlink/sn74lvc1g34.pdf
footprint DRL0005A_N (SOT23, 5-Leads, Body 1.7x1.3mm, Pitch 0.5mm, IPC Medium Density)
footprint DRL0005A_M (SOT23, 5-Leads, Body 1.7x1.3mm, Pitch 0.5mm, IPC Low Density)
footprint DRL0005A_L (SOT23, 5-Leads, Body 1.7x1.3mm, Pitch 0.5mm, IPC High Density)
part A pins: 2 A (in) "Input", 4 Y (out) "Output"
part B pins: 1 NC "Ground", 3 GND (power) "Ground Pin", 5 VCC (power) "Power Pin"

## SN74LVC1G34DRYR
designator U?
Single Buffer Gate, DRY0006A, LARGE T&R; Generic Part Number: SN74LVC1G34; Manufacturer: Texas Instruments; PartNumber: SN74LVC1G34DRYR; VCC(Min)(V): 1.65; VCC(Max)(V): 5.5; Output Type: CMOS; ICC @ Nom Voltage(Max)(mA): 0.001; Input Type: CMOS/TTL; Bits(#): 1; F @ Nom Voltage(Max)(Mhz): 150; Rating: Catalog; Technology Family: LVC; Voltage(Nom)(V): 1.8,2.5,3.3,5; Schmitt Trigger: No; Output Drive (IOL/IOH)(Max)(mA): 32/-32; tpd @ Nom Voltage(Max)(ns): 8.6,4.4,4.1,3.2; Logic: True; Sub-Family: Non-Inverting Buffer/Driver; DatasheetVersion: SCES519L; PackageReference: DRY0006A; Supplier 1: Mouser; Supplier Part Number 1: 595-SN74LVC1G34DRYR; Supplier 2: Digi-Key; Supplier Part Number 2: 296-29051-2-ND; Supplier 3: Digi-Key; Supplier Part Number 3: 296-29051-1-ND; Supplier 4: Digi-Key; Supplier Part Number 4: 296-29051-6-ND; Operating Temperature Range(C): -40 to 125,-40 to 85; 3-State Output: No; ComponentLink1Description: Manufacturer URL; ComponentLink1URL: http://www.ti.com/; ComponentLink2Description: Datasheet; ComponentLink2URL: http://www.ti.com/lit/ds/symlink/sn74lvc1g34.pdf
footprint DRY0006A_V (SON, 6-Leads, Body 1.45x1mm, Pitch 0.5mm)
part A pins: 2 A (in) "Input", 4 Y (out) "Output"
part B pins: 1 NC "Not connected", 3 GND (power) "Ground", 5 NC "Not connected", 6 VCC (power) "Power pin"

## SN74LVC1G34DSFR
designator U?
Single Buffer Gate, DSF0006A, LARGE T&R; Generic Part Number: SN74LVC1G34; Manufacturer: Texas Instruments; PartNumber: SN74LVC1G34DSFR; VCC(Min)(V): 1.65; VCC(Max)(V): 5.5; Output Type: CMOS; ICC @ Nom Voltage(Max)(mA): 0.001; Input Type: CMOS/TTL; Bits(#): 1; F @ Nom Voltage(Max)(Mhz): 150; Rating: Catalog; Technology Family: LVC; Voltage(Nom)(V): 1.8,2.5,3.3,5; Schmitt Trigger: No; Output Drive (IOL/IOH)(Max)(mA): 32/-32; tpd @ Nom Voltage(Max)(ns): 8.6,4.4,4.1,3.2; Logic: True; Sub-Family: Non-Inverting Buffer/Driver; DatasheetVersion: SCES519L; PackageReference: DSF0006A; Supplier 1: Mouser; Supplier Part Number 1: 595-SN74LVC1G34DSFR; Supplier 2: Digi-Key; Supplier Part Number 2: 296-29052-2-ND; Supplier 3: Digi-Key; Supplier Part Number 3: 296-29052-1-ND; Supplier 4: Digi-Key; Supplier Part Number 4: 296-29052-6-ND; Operating Temperature Range(C): -40 to 125,-40 to 85; 3-State Output: No; ComponentLink1Description: Manufacturer URL; ComponentLink1URL: http://www.ti.com/; ComponentLink2Description: Datasheet; ComponentLink2URL: http://www.ti.com/lit/ds/symlink/sn74lvc1g34.pdf
footprint DSF0006A_V (SON, 6-Leads, Body 1x1mm, Pitch 0.35mm, TI Recommend)
part A pins: 2 A (in) "Input", 4 Y (out) "Output"
part B pins: 1 NC "Not connected", 3 GND (power) "Ground", 5 NC "Not connected", 6 VCC (power) "Power pin"

## SN74LVC1G34YFPR
designator U?
Single Buffer Gate, YZP0004AAAA, LARGE T&R; Generic Part Number: SN74LVC1G34; Manufacturer: Texas Instruments; PartNumber: SN74LVC1G34YFPR; VCC(Min)(V): 1.65; VCC(Max)(V): 5.5; Output Type: CMOS; ICC @ Nom Voltage(Max)(mA): 0.001; Input Type: CMOS/TTL; Bits(#): 1; F @ Nom Voltage(Max)(Mhz): 150; Rating: Catalog; Technology Family: LVC; Voltage(Nom)(V): 1.8,2.5,3.3,5; Schmitt Trigger: No; Output Drive (IOL/IOH)(Max)(mA): 32/-32; tpd @ Nom Voltage(Max)(ns): 8.6,4.4,4.1,3.2; Logic: True; Sub-Family: Non-Inverting Buffer/Driver; DatasheetVersion: SCES519L; PackageReference: YZP0004AAAA; Supplier 1: Mouser; Supplier Part Number 1: 595-SN74LVC1G34YFPR; Supplier 2: Digi-Key; Supplier Part Number 2: 296-23862-2-ND; Supplier 3: Digi-Key; Supplier Part Number 3: 296-23862-1-ND; Supplier 4: Digi-Key; Supplier Part Number 4: 296-23862-6-ND; Operating Temperature Range(C): -40 to 125,-40 to 85; 3-State Output: No; ComponentLink1Description: Manufacturer URL; ComponentLink1URL: http://www.ti.com/; ComponentLink2Description: Datasheet; ComponentLink2URL: http://www.ti.com/lit/ds/symlink/sn74lvc1g34.pdf
footprint YZP0004AAAA (BGA, 4-Balls, Body 0.76x0.76mm, Pitch 0.4mm)
part A pins: A1 A (in) "Input", B2 Y (out) "Output"
part B pins: A2 VCC (power) "Power pin", B1 GND (power) "Ground"

## SN74LVC1G34YZPR
designator U?
Single Buffer Gate, YZP0005ADAD, LARGE T&R; Generic Part Number: SN74LVC1G34; Manufacturer: Texas Instruments; PartNumber: SN74LVC1G34YZPR; VCC(Min)(V): 1.65; VCC(Max)(V): 5.5; Output Type: CMOS; ICC @ Nom Voltage(Max)(mA): 0.001; Input Type: CMOS/TTL; Bits(#): 1; F @ Nom Voltage(Max)(Mhz): 150; Rating: Catalog; Technology Family: LVC; Voltage(Nom)(V): 1.8,2.5,3.3,5; Schmitt Trigger: No; Output Drive (IOL/IOH)(Max)(mA): 32/-32; tpd @ Nom Voltage(Max)(ns): 8.6,4.4,4.1,3.2; Logic: True; Sub-Family: Non-Inverting Buffer/Driver; DatasheetVersion: SCES519L; PackageReference: YZP0005ADAD; Supplier 1: Mouser; Supplier Part Number 1: 595-SN74LVC1G34YZPR; Supplier 2: Digi-Key; Supplier Part Number 2: 296-18773-2-ND; Supplier 3: Digi-Key; Supplier Part Number 3: 296-18773-1-ND; Operating Temperature Range(C): -40 to 125,-40 to 85; 3-State Output: No; ComponentLink1Description: Manufacturer URL; ComponentLink1URL: http://www.ti.com/; ComponentLink2Description: Datasheet; ComponentLink2URL: http://www.ti.com/lit/ds/symlink/sn74lvc1g34.pdf
footprint YZP0005ADAD (BGA, 5-Balls, Body 1.39x0.89mm, Pitch 0.5mm)
part A pins: B1 A (in) "Input", C2 Y (out) "Output"
part B pins: A1 DNU "Do not use", A2 VCC (power) "Power", C1 GND (power) "Ground"

## SN74LVC1G34YZVR
designator U?
Single Buffer Gate, YZV0004ADAD, LARGE T&R; Generic Part Number: SN74LVC1G34; Manufacturer: Texas Instruments; PartNumber: SN74LVC1G34YZVR; VCC(Min)(V): 1.65; VCC(Max)(V): 5.5; Output Type: CMOS; ICC @ Nom Voltage(Max)(mA): 0.001; Input Type: CMOS/TTL; Bits(#): 1; F @ Nom Voltage(Max)(Mhz): 150; Rating: Catalog; Technology Family: LVC; Voltage(Nom)(V): 1.8,2.5,3.3,5; Schmitt Trigger: No; Output Drive (IOL/IOH)(Max)(mA): 32/-32; tpd @ Nom Voltage(Max)(ns): 8.6,4.4,4.1,3.2; Logic: True; Sub-Family: Non-Inverting Buffer/Driver; DatasheetVersion: SCES519L; PackageReference: YZV0004ADAD; Supplier 1: Mouser; Supplier Part Number 1: 595-SN74LVC1G34YZVR; Supplier 2: Digi-Key; Supplier Part Number 2: 296-21062-2-ND; Supplier 3: Digi-Key; Supplier Part Number 3: 296-21062-1-ND; Supplier 4: Digi-Key; Supplier Part Number 4: 296-21062-6-ND; Operating Temperature Range(C): -40 to 125,-40 to 85; 3-State Output: No; ComponentLink1Description: Manufacturer URL; ComponentLink1URL: http://www.ti.com/; ComponentLink2Description: Datasheet; ComponentLink2URL: http://www.ti.com/lit/ds/symlink/sn74lvc1g34.pdf
footprint YZV0004ADAD (BGA, 4-Balls, Body 0.89x0.89mm, Pitch 0.5mm)
part A pins: A1 A (in) "Input", B2 Y (out) "Output"
part B pins: A2 VCC (power) "Power pin", B1 GND (power) "Ground"

## SN74LVC1G38DBVR
designator U?
Single 2-Input NAND Gate with Open Drain Output, DBV0005A, LARGE T&R; Generic Part Number: SN74LVC1G38; Manufacturer: Texas Instruments; PartNumber: SN74LVC1G38DBVR; VCC(Min)(V): 1.65; VCC(Max)(V): 5.5; Output Type: CMOS; ICC @ Nom Voltage(Max)(mA): 0.01; Input Type: CMOS/TTL; Bits(#): 1; F @ Nom Voltage(Max)(Mhz): 150; Rating: Catalog; Technology Family: LVC; Voltage(Nom)(V): 1.8,2.5,3.3,5; Schmitt Trigger: No; Output Drive (IOL/IOH)(Max)(mA): 32/-32; tpd @ Nom Voltage(Max)(ns): 10,6,4.5,3.9; Logic: True; DatasheetVersion: SCES538D; PackageReference: DBV0005A; Supplier 1: Mouser; Supplier Part Number 1: 595-SN74LVC1G38DBVR; Supplier 2: Digi-Key; Supplier Part Number 2: 296-17846-2-ND; Supplier 3: Digi-Key; Supplier Part Number 3: 296-17846-1-ND; Supplier 4: Digi-Key; Supplier Part Number 4: 296-17846-6-ND; Operating Temperature Range(C): -40 to 125,-40 to 85; Gate Type: NAND; Sub-Family: NAND Gate; 3-State Output: No; ComponentLink1Description: Manufacturer URL; ComponentLink1URL: http://www.ti.com/; ComponentLink2Description: Datasheet; ComponentLink2URL: http://www.ti.com/lit/ds/symlink/sn74lvc1g38.pdf
footprint DBV0005A_N (SOT23, 5-Leads, Body 3.05x1.75mm, Pitch 0.95mm, IPC Medium Density)
footprint DBV0005A_M (SOT23, 5-Leads, Body 3.05x1.75mm, Pitch 0.95mm, IPC Low Density)
footprint DBV0005A_L (SOT23, 5-Leads, Body 3.05x1.75mm, Pitch 0.95mm, IPC High Density)
part A pins: 1 A (in), 2 B (in), 4 Y (oc)
part B pins: 3 GND (power), 5 VCC (power)

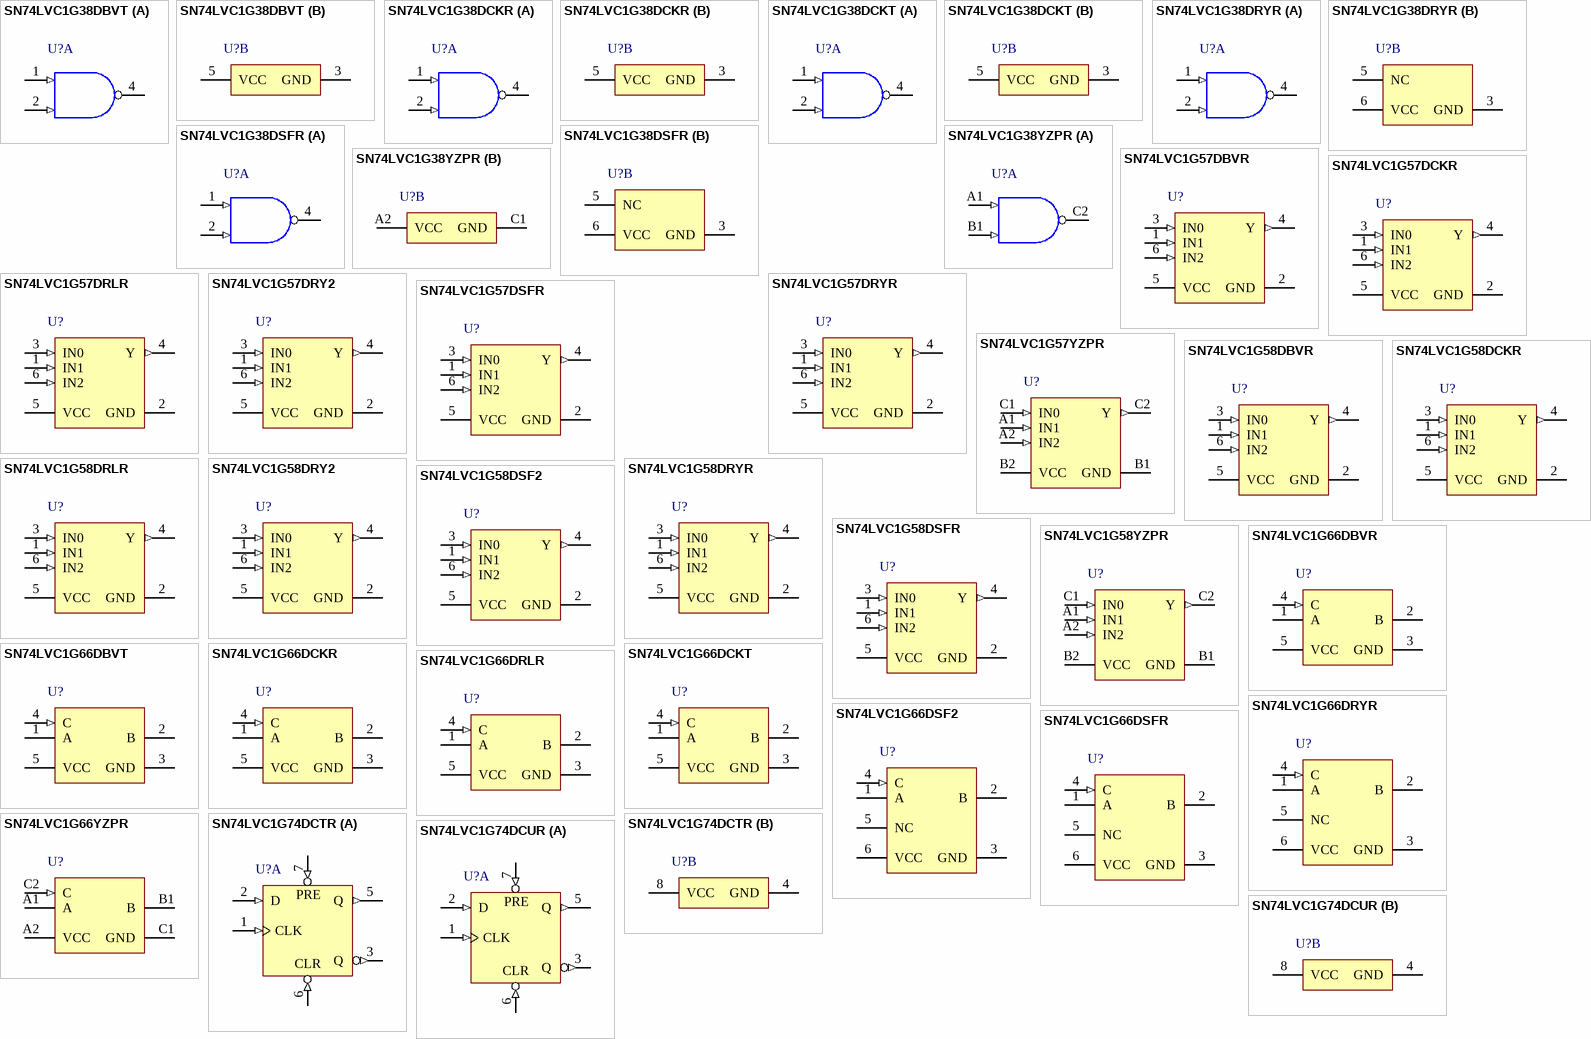
[diagram p41: symbols SN74LVC1G38DBVT to SN74LVC1G74DCUR]

## SN74LVC1G38DBVT
designator U?
Single 2-Input NAND Gate with Open Drain Output, DBV0005A, SMALL T&R; Generic Part Number: SN74LVC1G38; Manufacturer: Texas Instruments; PartNumber: SN74LVC1G38DBVT; VCC(Min)(V): 1.65; VCC(Max)(V): 5.5; Output Type: CMOS; ICC @ Nom Voltage(Max)(mA): 0.01; Input Type: CMOS/TTL; Bits(#): 1; F @ Nom Voltage(Max)(Mhz): 150; Rating: Catalog; Technology Family: LVC; Voltage(Nom)(V): 1.8,2.5,3.3,5; Schmitt Trigger: No; Output Drive (IOL/IOH)(Max)(mA): 32/-32; tpd @ Nom Voltage(Max)(ns): 10,6,4.5,3.9; Logic: True; DatasheetVersion: SCES538D; PackageReference: DBV0005A; Supplier 1: Mouser; Supplier Part Number 1: 595-SN74LVC1G38DBVT; Supplier 2: Digi-Key; Supplier Part Number 2: SN74LVC1G38DBVT-ND; Operating Temperature Range(C): -40 to 125,-40 to 85; Gate Type: NAND; Sub-Family: NAND Gate; 3-State Output: No; ComponentLink1Description: Manufacturer URL; ComponentLink1URL: http://www.ti.com/; ComponentLink2Description: Datasheet; ComponentLink2URL: http://www.ti.com/lit/ds/symlink/sn74lvc1g38.pdf
footprint DBV0005A_N (SOT23, 5-Leads, Body 3.05x1.75mm, Pitch 0.95mm, IPC Medium Density)
footprint DBV0005A_M (SOT23, 5-Leads, Body 3.05x1.75mm, Pitch 0.95mm, IPC Low Density)
footprint DBV0005A_L (SOT23, 5-Leads, Body 3.05x1.75mm, Pitch 0.95mm, IPC High Density)
part A pins: 1 A (in), 2 B (in), 4 Y (oc)
part B pins: 3 GND (power), 5 VCC (power)

## SN74LVC1G38DCKR
designator U?
Single 2-Input NAND Gate with Open Drain Output, DCK0005A, LARGE T&R; Generic Part Number: SN74LVC1G38; Manufacturer: Texas Instruments; PartNumber: SN74LVC1G38DCKR; VCC(Min)(V): 1.65; VCC(Max)(V): 5.5; Output Type: CMOS; ICC @ Nom Voltage(Max)(mA): 0.01; Input Type: CMOS/TTL; Bits(#): 1; F @ Nom Voltage(Max)(Mhz): 150; Rating: Catalog; Technology Family: LVC; Voltage(Nom)(V): 1.8,2.5,3.3,5; Schmitt Trigger: No; Output Drive (IOL/IOH)(Max)(mA): 32/-32; tpd @ Nom Voltage(Max)(ns): 10,6,4.5,3.9; Logic: True; DatasheetVersion: SCES538D; PackageReference: DCK0005A; Supplier 1: Mouser; Supplier Part Number 1: 595-SN74LVC1G38DCKR; Supplier 2: Digi-Key; Supplier Part Number 2: 296-17907-2-ND; Supplier 3: Digi-Key; Supplier Part Number 3: 296-17907-1-ND; Supplier 4: Digi-Key; Supplier Part Number 4: 296-17907-6-ND; Operating Temperature Range(C): -40 to 125,-40 to 85; Gate Type: NAND; Sub-Family: NAND Gate; 3-State Output: No; ComponentLink1Description: Manufacturer URL; ComponentLink1URL: http://www.ti.com/; ComponentLink2Description: Datasheet; ComponentLink2URL: http://www.ti.com/lit/ds/symlink/sn74lvc1g38.pdf
footprint DCK0005A_N (SOT23, 5-Leads, Body 2.15x1.4mm, Pitch 0.65mm, IPC Medium Density)
footprint DCK0005A_M (SOT23, 5-Leads, Body 2.15x1.4mm, Pitch 0.65mm, IPC Low Density)
footprint DCK0005A_L (SOT23, 5-Leads, Body 2.15x1.4mm, Pitch 0.65mm, IPC High Density)
part A pins: 1 A (in), 2 B (in), 4 Y (oc)
part B pins: 3 GND (power), 5 VCC (power)

## SN74LVC1G38DCKT
designator U?
Single 2-Input NAND Gate with Open Drain Output, DCK0005A, SMALL T&R; Generic Part Number: SN74LVC1G38; Manufacturer: Texas Instruments; PartNumber: SN74LVC1G38DCKT; VCC(Min)(V): 1.65; VCC(Max)(V): 5.5; Output Type: CMOS; ICC @ Nom Voltage(Max)(mA): 0.01; Input Type: CMOS/TTL; Bits(#): 1; F @ Nom Voltage(Max)(Mhz): 150; Rating: Catalog; Technology Family: LVC; Voltage(Nom)(V): 1.8,2.5,3.3,5; Schmitt Trigger: No; Output Drive (IOL/IOH)(Max)(mA): 32/-32; tpd @ Nom Voltage(Max)(ns): 10,6,4.5,3.9; Logic: True; DatasheetVersion: SCES538D; PackageReference: DCK0005A; Supplier 1: Mouser; Supplier Part Number 1: 595-SN74LVC1G38DCKT; Supplier 2: Digi-Key; Supplier Part Number 2: 296-32303-2-ND; Supplier 3: Digi-Key; Supplier Part Number 3: 296-32303-1-ND; Supplier 4: Digi-Key; Supplier Part Number 4: 296-32303-6-ND; Operating Temperature Range(C): -40 to 125,-40 to 85; Gate Type: NAND; Sub-Family: NAND Gate; 3-State Output: No; ComponentLink1Description: Manufacturer URL; ComponentLink1URL: http://www.ti.com/; ComponentLink2Description: Datasheet; ComponentLink2URL: http://www.ti.com/lit/ds/symlink/sn74lvc1g38.pdf
footprint DCK0005A_N (SOT23, 5-Leads, Body 2.15x1.4mm, Pitch 0.65mm, IPC Medium Density)
footprint DCK0005A_M (SOT23, 5-Leads, Body 2.15x1.4mm, Pitch 0.65mm, IPC Low Density)
footprint DCK0005A_L (SOT23, 5-Leads, Body 2.15x1.4mm, Pitch 0.65mm, IPC High Density)
part A pins: 1 A (in), 2 B (in), 4 Y (oc)
part B pins: 3 GND (power), 5 VCC (power)

## SN74LVC1G38DRYR
designator U?
Single 2-Input NAND Gate with Open Drain Output, DRY0006A, LARGE T&R; Generic Part Number: SN74LVC1G38; Manufacturer: Texas Instruments; PartNumber: SN74LVC1G38DRYR; VCC(Min)(V): 1.65; VCC(Max)(V): 5.5; Output Type: CMOS; ICC @ Nom Voltage(Max)(mA): 0.01; Input Type: CMOS/TTL; Bits(#): 1; F @ Nom Voltage(Max)(Mhz): 150; Rating: Catalog; Technology Family: LVC; Voltage(Nom)(V): 1.8,2.5,3.3,5; Schmitt Trigger: No; Output Drive (IOL/IOH)(Max)(mA): 32/-32; tpd @ Nom Voltage(Max)(ns): 10,6,4.5,3.9; Logic: True; DatasheetVersion: SCES538D; PackageReference: DRY0006A; Supplier 1: Mouser; Supplier Part Number 1: 595-SN74LVC1G38DRYR; Supplier 2: Digi-Key; Supplier Part Number 2: 296-28377-2-ND; Supplier 3: Digi-Key; Supplier Part Number 3: 296-28377-1-ND; Supplier 4: Digi-Key; Supplier Part Number 4: 296-28377-6-ND; Operating Temperature Range(C): -40 to 125,-40 to 85; Gate Type: NAND; Sub-Family: NAND Gate; 3-State Output: No; ComponentLink1Description: Manufacturer URL; ComponentLink1URL: http://www.ti.com/; ComponentLink2Description: Datasheet; ComponentLink2URL: http://www.ti.com/lit/ds/symlink/sn74lvc1g38.pdf
footprint DRY0006A_V (SON, 6-Leads, Body 1.45x1mm, Pitch 0.5mm)
part A pins: 1 A (in), 2 B (in), 4 Y (oc)
part B pins: 3 GND (power), 5 NC, 6 VCC (power)

## SN74LVC1G38DSFR
designator U?
Single 2-Input NAND Gate with Open Drain Output, DSF0006A, LARGE T&R; Generic Part Number: SN74LVC1G38; Manufacturer: Texas Instruments; PartNumber: SN74LVC1G38DSFR; VCC(Min)(V): 1.65; VCC(Max)(V): 5.5; Output Type: CMOS; ICC @ Nom Voltage(Max)(mA): 0.01; Input Type: CMOS/TTL; Bits(#): 1; F @ Nom Voltage(Max)(Mhz): 150; Rating: Catalog; Technology Family: LVC; Voltage(Nom)(V): 1.8,2.5,3.3,5; Schmitt Trigger: No; Output Drive (IOL/IOH)(Max)(mA): 32/-32; tpd @ Nom Voltage(Max)(ns): 10,6,4.5,3.9; Logic: True; DatasheetVersion: SCES538D; PackageReference: DSF0006A; Supplier 1: Mouser; Supplier Part Number 1: 595-SN74LVC1G38DSFR; Supplier 2: Digi-Key; Supplier Part Number 2: 296-28378-2-ND; Supplier 3: Digi-Key; Supplier Part Number 3: 296-28378-1-ND; Supplier 4: Digi-Key; Supplier Part Number 4: 296-28378-6-ND; Operating Temperature Range(C): -40 to 125,-40 to 85; Gate Type: NAND; Sub-Family: NAND Gate; 3-State Output: No; ComponentLink1Description: Manufacturer URL; ComponentLink1URL: http://www.ti.com/; ComponentLink2Description: Datasheet; ComponentLink2URL: http://www.ti.com/lit/ds/symlink/sn74lvc1g38.pdf
footprint DSF0006A_V (SON, 6-Leads, Body 1x1mm, Pitch 0.35mm, TI Recommend)
part A pins: 1 A (in), 2 B (in), 4 Y (oc)
part B pins: 3 GND (power), 5 NC, 6 VCC (power)

## SN74LVC1G38YZPR
designator U?
Single 2-Input NAND Gate with Open Drain Output, YZP0005ADAD, LARGE T&R; Generic Part Number: SN74LVC1G38; Manufacturer: Texas Instruments; PartNumber: SN74LVC1G38YZPR; VCC(Min)(V): 1.65; VCC(Max)(V): 5.5; Output Type: CMOS; ICC @ Nom Voltage(Max)(mA): 0.01; Input Type: CMOS/TTL; Bits(#): 1; F @ Nom Voltage(Max)(Mhz): 150; Rating: Catalog; Technology Family: LVC; Voltage(Nom)(V): 1.8,2.5,3.3,5; Schmitt Trigger: No; Output Drive (IOL/IOH)(Max)(mA): 32/-32; tpd @ Nom Voltage(Max)(ns): 10,6,4.5,3.9; Logic: True; DatasheetVersion: SCES538D; PackageReference: YZP0005ADAD; Supplier 1: Mouser; Supplier Part Number 1: 595-SN74LVC1G38YZPR; Supplier 2: Digi-Key; Supplier Part Number 2: 296-18783-2-ND; Supplier 3: Digi-Key; Supplier Part Number 3: 296-18783-1-ND; Operating Temperature Range(C): -40 to 125,-40 to 85; Gate Type: NAND; Sub-Family: NAND Gate; 3-State Output: No; ComponentLink1Description: Manufacturer URL; ComponentLink1URL: http://www.ti.com/; ComponentLink2Description: Datasheet; ComponentLink2URL: http://www.ti.com/lit/ds/symlink/sn74lvc1g38.pdf
footprint YZP0005ADAD (BGA, 5-Balls, Body 1.39x0.89mm, Pitch 0.5mm)
part A pins: A1 A (in), B1 B (in), C2 Y (oc)
part B pins: A2 VCC (power), C1 GND (power)

## SN74LVC1G57DBVR
designator U?
CONFIGURABLE MULTIPLE-FUNCTION GATE, DBV0006A, LARGE T&R; Generic Part Number: SN74LVC1G57; Manufacturer: Texas Instruments; PartNumber: SN74LVC1G57DBVR; VCC(Min)(V): 1.65; VCC(Max)(V): 5.5; Output Type: CMOS; ICC @ Nom Voltage(Max)(mA): 0.01; Input Type: CMOS/TTL; Bits(#): 1; F @ Nom Voltage(Max)(Mhz): 150; Rating: Catalog; Technology Family: LVC; Voltage(Nom)(V): 1.8,2.5,3.3,5; Schmitt Trigger: No; Output Drive (IOL/IOH)(Max)(mA): 32/-32; tpd @ Nom Voltage(Max)(ns): 14.4,8.3,6.3,5.1; Logic: True; Sub-Family: Configurable Logic; DatasheetVersion: SCES414O; PackageReference: DBV0006A; Supplier 1: Mouser; Supplier Part Number 1: 595-SN74LVC1G57DBVR; Supplier 2: Digi-Key; Supplier Part Number 2: 296-15574-2-ND; Supplier 3: Digi-Key; Supplier Part Number 3: 296-15574-1-ND; Supplier 4: Digi-Key; Supplier Part Number 4: 296-15574-6-ND; Operating Temperature Range(C): -40 to 125; Gate Type: Configurable; 3-State Output: No; ComponentLink1Description: Manufacturer URL; ComponentLink1URL: http://www.ti.com/; ComponentLink2Description: Datasheet; ComponentLink2URL: http://www.ti.com/lit/ds/symlink/sn74lvc1g57.pdf
footprint DBV0006A_N (SOT23, 6-Leads, Body 3.05x1.75mm, Pitch 0.95mm, IPC Medium Density)
footprint DBV0006A_M (SOT23, 6-Leads, Body 3.05x1.75mm, Pitch 0.95mm, IPC Low Density)
footprint DBV0006A_L (SOT23, 6-Leads, Body 3.05x1.75mm, Pitch 0.95mm, IPC High Density)
pins: 1 IN1 (in), 2 GND (power), 3 IN0 (in), 4 Y (out), 5 VCC (power), 6 IN2 (in)

## SN74LVC1G57DCKR
designator U?
CONFIGURABLE MULTIPLE-FUNCTION GATE, DCK0006A, LARGE T&R; Generic Part Number: SN74LVC1G57; Manufacturer: Texas Instruments; PartNumber: SN74LVC1G57DCKR; VCC(Min)(V): 1.65; VCC(Max)(V): 5.5; Output Type: CMOS; ICC @ Nom Voltage(Max)(mA): 0.01; Input Type: CMOS/TTL; Bits(#): 1; F @ Nom Voltage(Max)(Mhz): 150; Rating: Catalog; Technology Family: LVC; Voltage(Nom)(V): 1.8,2.5,3.3,5; Schmitt Trigger: No; Output Drive (IOL/IOH)(Max)(mA): 32/-32; tpd @ Nom Voltage(Max)(ns): 14.4,8.3,6.3,5.1; Logic: True; Sub-Family: Configurable Logic; DatasheetVersion: SCES414O; PackageReference: DCK0006A; Supplier 1: Mouser; Supplier Part Number 1: 595-SN74LVC1G57DCKR; Supplier 2: Digi-Key; Supplier Part Number 2: 296-15575-2-ND; Supplier 3: Digi-Key; Supplier Part Number 3: 296-15575-1-ND; Supplier 4: Digi-Key; Supplier Part Number 4: 296-15575-6-ND; Operating Temperature Range(C): -40 to 125; Gate Type: Configurable; 3-State Output: No; ComponentLink1Description: Manufacturer URL; ComponentLink1URL: http://www.ti.com/; ComponentLink2Description: Datasheet; ComponentLink2URL: http://www.ti.com/lit/ds/symlink/sn74lvc1g57.pdf
footprint DCK0006A_N (SOT23, 6-Leads, Body 2.15x1.4mm, Pitch 0.65mm, IPC Medium Density)
footprint DCK0006A_M (SOT23, 6-Leads, Body 2.15x1.4mm, Pitch 0.65mm, IPC Low Density)
footprint DCK0006A_L (SOT23, 6-Leads, Body 2.15x1.4mm, Pitch 0.65mm, IPC High Density)
pins: 1 IN1 (in), 2 GND (power), 3 IN0 (in), 4 Y (out), 5 VCC (power), 6 IN2 (in)